# Altium footprint library XG_DW_POCT_2K10LED_V2.0_2024.11.151.PcbLib: 120 footprints (part 4 of 8)
Each footprint in its own frame and in the unit in brackets; x right, y up, seen from the top. Pads: shape width x height; smd on the part's side, far side on the other; paste and mask are expansions set on the pad; w line width, h text height; cw(c..) or ccw(c..) is an arc to the next point about the centre after c.
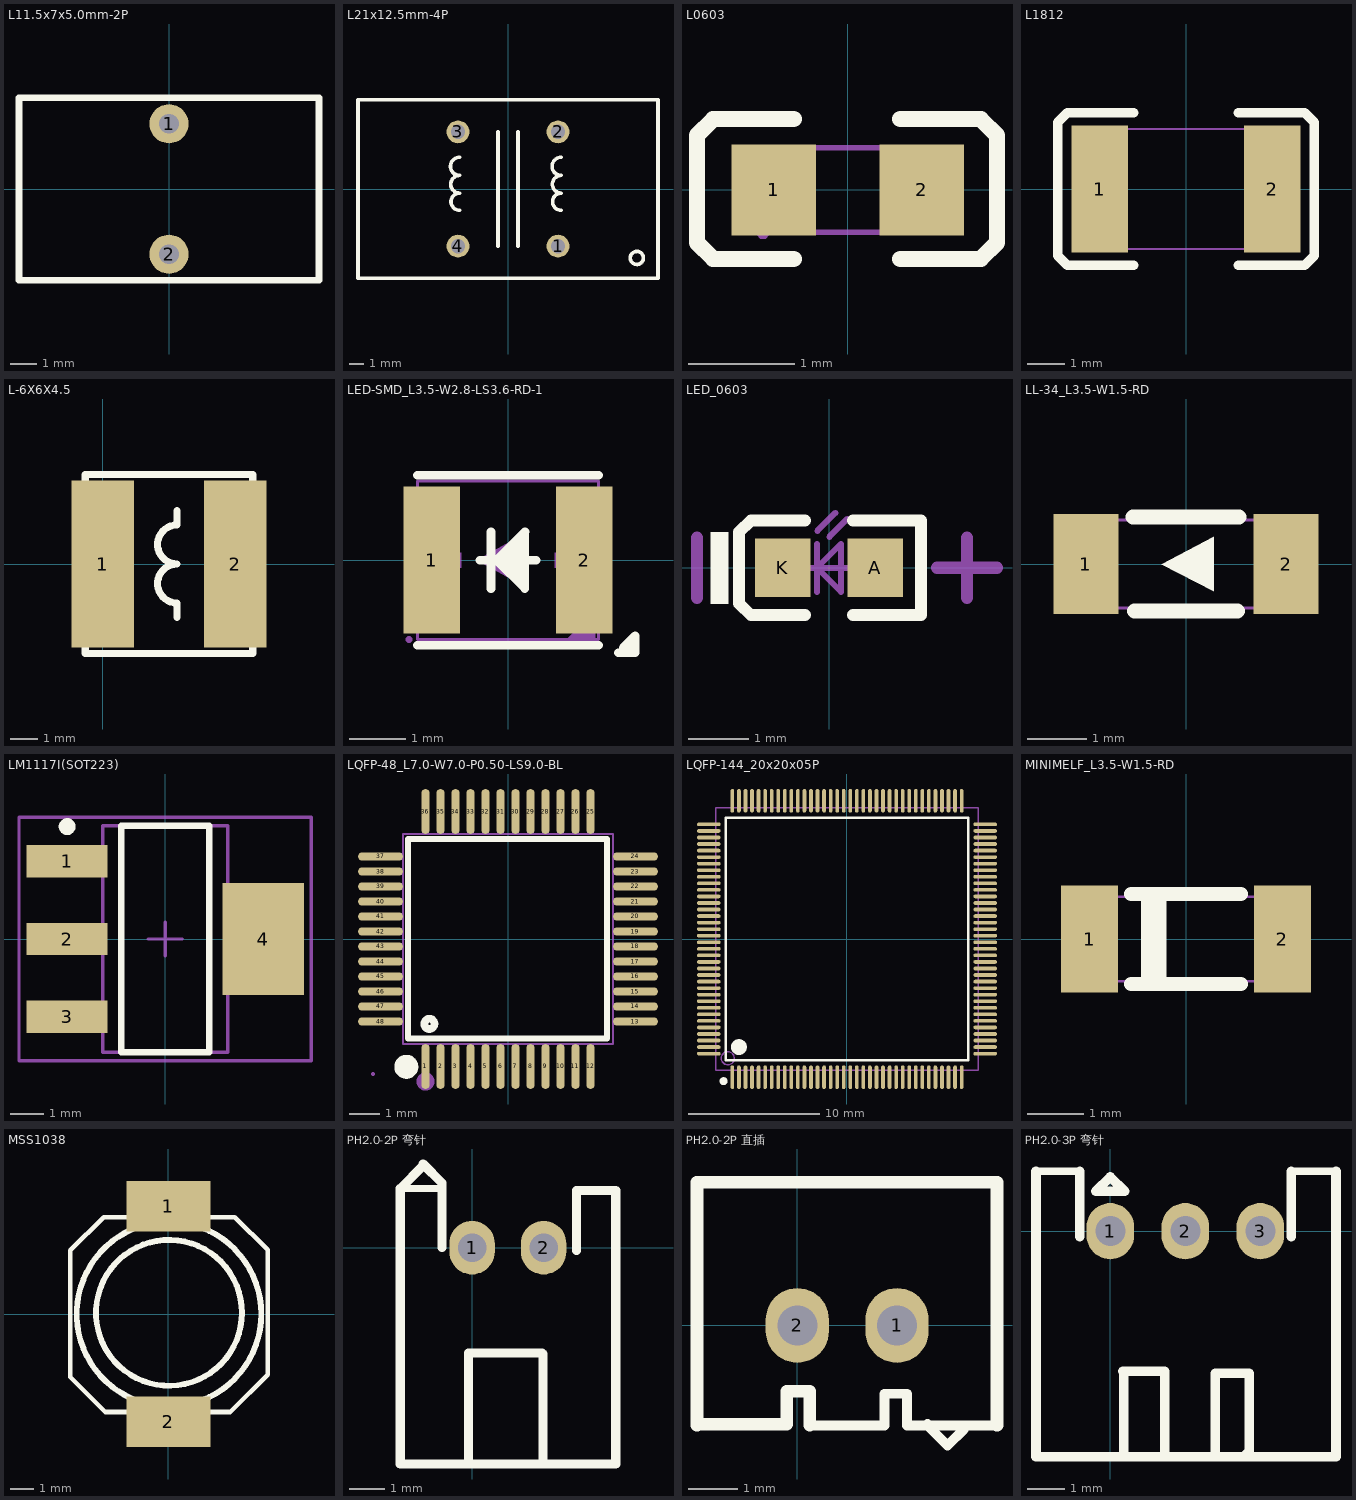
[diagram p3: the footprints below, top view; thin cyan lines are the x and y axes]

## L11.5x7x5.0mm-2P [mm]
pads (2):
  round 1.5 hole 0.75: 1(0,2.5) 2(0,-2.5)
Top Overlay:
  lines w0.254: -5.75,-3.5 5.75,-3.5 5.75,3.5 -5.75,3.5 -5.75,-3.5

## L21x12.5mm-4P [mm]
pads (4):
  round 1.6 hole 1: 1(3.5,-4) 2(3.5,4) 3(-3.5,4) 4(-3.5,-4)
Top Overlay:
  circle w0.254: c9.017,-4.826 r0.458
  lines w0.254: -3.388,-1.493 cw(c-3.388,-0.891) -3.388,-0.288 cw(c-3.388,0.332) -3.388,0.952 cw(c-3.388,1.587) -3.388,2.222 ; -0.7,-4 -0.7,4 ; 0.7,-4 0.7,4 ; 3.724,-1.493 cw(c3.724,-0.891) 3.724,-0.288 cw(c3.724,0.332) 3.724,0.952 cw(c3.724,1.587) 3.724,2.222 ; -10.5,-6.25 10.5,-6.25 10.5,6.25 -10.5,6.25 -10.5,-6.25

## L0603 [mm]
pads (2):
  rect 0.8x0.864 smd paste-100 mask+0.051: 1(-0.7,0) 2(0.7,0)
Top Overlay:
  lines w0.152: -0.51,-0.651 -1.272,-0.651 -1.424,-0.499 -1.424,0.517 -1.272,0.67 -0.51,0.67 ; 0.496,-0.651 1.258,-0.651 1.411,-0.499 1.411,0.517 1.258,0.67 0.496,0.67
Top Paste:
  region: 0.264,0.154 0.264,-0.122 0.538,-0.416 1.042,-0.416 1.106,-0.352 1.106,0.384 1.042,0.448 0.538,0.448
  region: -0.252,0.143 -0.252,-0.134 -0.526,-0.427 -1.029,-0.427 -1.093,-0.363 -1.093,0.373 -1.029,0.437 -0.526,0.437
Mechanical 15:
  region: -0.74,-0.4 -0.74,-0.375 -0.775,-0.34 -0.825,-0.34 -0.86,-0.375 -0.86,-0.4 -0.86,-0.425 -0.825,-0.46 -0.775,-0.46 -0.74,-0.425 -0.74,-0.4
  region: -0.5,-0.4 -0.8,-0.4 -0.8,0.4 -0.5,0.4
  region: 0.8,-0.4 0.5,-0.4 0.5,0.4 0.8,0.4
  lines w0.051: -0.8,-0.4 -0.8,0.4 0.8,0.4 0.8,-0.4 -0.8,-0.4

## L1812 [mm]
pads (2):
  rect 1.5x3.4 smd: 1(-2.305,0) 2(2.305,0)
Top Overlay:
  lines w0.254: -1.401,2.032 -3.174,2.032 -3.428,1.778 -3.428,-1.778 -3.174,-2.032 -1.396,-2.032 ; 1.396,2.032 3.174,2.032 3.428,1.778 3.428,-1.778 3.174,-2.032 1.401,-2.032
Mechanical 15:
  region: -2.25,-1.54 -2.275,-1.54 -2.309,-1.575 -2.309,-1.624 -2.275,-1.659 -2.25,-1.66 -2.226,-1.659 -2.191,-1.624 -2.191,-1.576 -2.226,-1.541 -2.25,-1.54
  region: -2.25,1.6 -1.75,1.6 -1.75,-1.6 -2.25,-1.6
  region: 2.25,-1.6 1.75,-1.6 1.75,1.6 2.25,1.6
  lines w0.051: -2.25,-1.6 2.25,-1.6 2.25,1.6 -2.25,1.6 -2.25,-1.6

## L-6X6X4.5 [mm]
pads (2):
  rect 2.25x6 smd: 1(0,0) 2(4.75,0)
Top Overlay:
  lines w0.254: 2.667,-1.908 2.667,-1.4 cw(c2.667,-0.7) 2.667,0 cw(c2.667,0.7) 2.667,1.4 2.667,1.908 ; -0.625,-3.2 2.375,-3.2 5.375,-3.2 5.375,3.2 2.375,3.2 -0.625,3.2 -0.625,-3.2

## LED-SMD_L3.5-W2.8-LS3.6-RD-1 [mm]
pads (2):
  rect 1x2.6 smd: 1(-1.35,0) 2(1.35,0)
Top Overlay:
  region: 0.25,0.45 0.25,-0.45 0.249,-0.451 0.249,-0.349 -0.15,0.05
  region: 1.947,-1.636 2.247,-1.636 2.247,-1.336
  lines w0.152: -1.6,-1.5 1.6,-1.5 ; -1.6,1.5 1.6,1.5 ; -0.5,0 -0.238,0 -0.2,0 ; -0.3,-0.5 -0.3,0.5 ; -0.235,0 -0.199,0 ; 0.299,0.5 0.299,-0.5 -0.199,0 ; 0.3,0.5 -0.2,0 ; 0.5,0 0.299,0 -0.2,0 ; 1.947,-1.636 2.247,-1.636 2.247,-1.336 2.036,-1.547
Mechanical 6:
  region: 0.35,0.5 0.35,-0.5 -0.55,0
  region: 1.17,-0.47 1.17,0.47 1.43,0.47 1.43,-0.47
  region: 0.83,0.13 1.77,0.13 1.77,-0.13 0.83,-0.13
  region: -1.77,0.13 -0.83,0.13 -0.83,-0.13 -1.77,-0.13
  region: 1.543,-1.386 1.543,-1.086 1.543,-0.886 1.043,-1.386
Mechanical 15:
  region: -1.69,-1.4 -1.691,-1.376 -1.726,-1.342 -1.774,-1.342 -1.809,-1.376 -1.81,-1.4 -1.809,-1.424 -1.775,-1.459 -1.726,-1.459 -1.691,-1.425 -1.69,-1.4
  region: -1.75,1.075 -0.95,1.075 -0.95,-1.075 -1.75,-1.075
  region: 0.95,1.075 1.75,1.075 1.75,-1.075 0.95,-1.075
  lines w0.051: -1.6,-1.4 -1.6,1.4 1.6,1.4 1.6,-1.4 -1.6,-1.4

## LED_0603 [mm]
height 7.7
pads (2):
  rect 0.93x0.98 smd: A(0.77,0) K(-0.77,0)
Top Overlay:
  rectangle: -1.975,-0.6 -1.675,0.6
  lines w0.2: -0.4,-0.79 -1.3,-0.79 -1.5,-0.597 -1.5,0.597 -1.3,0.79 -0.4,0.79 ; 0.4,-0.79 1.535,-0.79 1.535,0.79 0.4,0.79
Mechanical 13:
  lines w0.1: -0.4,0 0.4,0 ; -0.2,-0.4 -0.2,0.4 ; -0.195,0.617 0.105,0.917 ; 0.005,0.517 0.305,0.817 ; -0.2,0 0.2,-0.4 0.2,0.4 -0.2,0
Mechanical 15:
  lines w0.203: -2.2,-0.5 -2.2,0.5 ; 1.8,0 2.8,0 ; 2.3,-0.5 2.3,0.5
3D body "User Library-LED_0603_R.STEP": height 0.6, standoff 0, extent -0.8,-0.4 0.8,0.4

## LL-34_L3.5-W1.5-RD [mm]
pads (2):
  rect 1.1x1.7 smd: 1(-1.7,0) 2(1.7,0)
Top Overlay:
  region: -0.42,-0.005 -0.415,0 0.475,0.46 0.475,-0.46
  lines w0.254: -0.9,0.8 0.9,0.8 ; -0.878,-0.8 0.878,-0.8
Mechanical 6:
  region: 1.604,-0.335 1.604,0.326 1.782,0.326 1.782,-0.335
  region: 2.035,-0.096 1.374,-0.096 1.374,0.082 2.035,0.082
  region: -1.365,-0.096 -2.026,-0.096 -2.026,0.082 -1.365,0.082
Mechanical 15:
  region: -1.806,-0.75 -1.806,-0.775 -1.771,-0.809 -1.722,-0.809 -1.687,-0.775 -1.686,-0.75 -1.687,-0.726 -1.722,-0.691 -1.771,-0.691 -1.806,-0.726 -1.806,-0.75
  region: 1.754,-0.75 1.354,-0.75 1.354,0.75 1.754,0.75
  region: -1.346,-0.75 -1.746,-0.75 -1.746,0.75 -1.346,0.75
  lines w0.051: -1.746,-0.75 -1.746,0.75 1.754,0.75 1.754,-0.75 -1.746,-0.75

## LM1117I(SOT223) [mm]
pads (4):
  rect 2.4x0.95 smd: 1(-2.9,2.3) 2(-2.9,0) 3(-2.9,-2.3)
  rect 2.4x3.3 smd: 4(2.9,0)
Top Overlay:
  circle w0.25: c-2.9,3.325 r0.125
  lines w0.2: -1.3,-3.35 1.3,-3.35 1.3,3.35 -1.3,3.35 -1.3,-3.35
Mechanical 13:
  lines w0.1: -1.85,-3.35 1.85,-3.35 1.85,3.35 -1.85,3.35 -1.85,-3.35
Mechanical 15:
  lines w0.1: -0.5,0 0.5,0 ; 0,-0.5 0,0.5 ; -4.325,-3.6 4.325,-3.6 4.325,3.6 -4.325,3.6 -4.325,-3.6
3D body: height 1.8, standoff 0.03, extent -1.85,-3.35 1.85,3.35

## LQFP-48_L7.0-W7.0-P0.50-LS9.0-BL [mm]
pads (48):
  oval 0.27x1.5 smd paste+0 mask+0.05: 1(-2.75,-4.25) 2(-2.25,-4.25) 3(-1.75,-4.25) 4(-1.25,-4.25) 5(-0.75,-4.25) 6(-0.25,-4.25) 7(0.25,-4.25) 8(0.75,-4.25) 9(1.25,-4.25) 10(1.75,-4.25) 11(2.25,-4.25) 12(2.75,-4.25) 25(2.75,4.25) 26(2.25,4.25) 27(1.75,4.25) 28(1.25,4.25) 29(0.75,4.25) 30(0.25,4.25) 31(-0.25,4.25) 32(-0.75,4.25) 33(-1.25,4.25) 34(-1.75,4.25) 35(-2.25,4.25) 36(-2.75,4.25)
  oval 1.5x0.27 smd paste+0 mask+0.05: 13(4.25,-2.75) 14(4.25,-2.25) 15(4.25,-1.75) 16(4.25,-1.25) 17(4.25,-0.75) 18(4.25,-0.25) 19(4.25,0.25) 20(4.25,0.75) 21(4.25,1.25) 22(4.25,1.75) 23(4.25,2.25) 24(4.25,2.75) 37(-4.25,2.75) 38(-4.25,2.25) 39(-4.25,1.75) 40(-4.25,1.25) 41(-4.25,0.75) 42(-4.25,0.25) 43(-4.25,-0.25) 44(-4.25,-0.75) 45(-4.25,-1.25) 46(-4.25,-1.75) 47(-4.25,-2.25) 48(-4.25,-2.75)
Top Overlay:
  circle w0.254: c-2.62,-2.83 r0.17
  lines w0.2: -2.896,3.34 3.302,3.34 3.302,-3.315 -3.327,-3.315 -3.327,3.34 -2.565,3.34
  lines w0.4: -3.39,-4.06 ccw(c-3.389,-4.26) -3.387,-4.06
Mechanical 6:
  circle w0.3: c-2.75,-4.75 r0.15
Mechanical 15:
  drawing of 101 lines, arcs and shapes, not listed

## LQFP-144_20x20x05P [mm]
pads (144):
  oval 0.28x1.8 smd mask+0.051: 1(-8.75,-10.55) 2(-8.25,-10.55) 3(-7.75,-10.55) 4(-7.25,-10.55) 5(-6.75,-10.55) 6(-6.25,-10.55) 7(-5.75,-10.55) 8(-5.25,-10.55) 9(-4.75,-10.55) 10(-4.25,-10.55) 11(-3.75,-10.55) 12(-3.25,-10.55) 13(-2.75,-10.55) 14(-2.25,-10.55) 15(-1.75,-10.55) 16(-1.25,-10.55) 17(-0.75,-10.55) 18(-0.25,-10.55) 19(0.25,-10.55) 20(0.75,-10.55) 21(1.25,-10.55) 22(1.75,-10.55) 23(2.25,-10.55) 24(2.75,-10.55) 25(3.25,-10.55) 26(3.75,-10.55) 27(4.25,-10.55) 28(4.75,-10.55) 29(5.25,-10.55) 30(5.75,-10.55) 31(6.25,-10.55) 32(6.75,-10.55) 33(7.25,-10.55) 34(7.75,-10.55) 35(8.25,-10.55) 36(8.75,-10.55) 73(8.75,10.55) 74(8.25,10.55) 75(7.75,10.55) 76(7.25,10.55) 77(6.75,10.55) 78(6.25,10.55) 79(5.75,10.55) 80(5.25,10.55) 81(4.75,10.55) 82(4.25,10.55) 83(3.75,10.55) 84(3.25,10.55) 85(2.75,10.55) 86(2.25,10.55) 87(1.75,10.55) 88(1.25,10.55) 89(0.75,10.55) 90(0.25,10.55) 91(-0.25,10.55) 92(-0.75,10.55) 93(-1.25,10.55) 94(-1.75,10.55) 95(-2.25,10.55) 96(-2.75,10.55) 97(-3.25,10.55) 98(-3.75,10.55) 99(-4.25,10.55) 100(-4.75,10.55) 101(-5.25,10.55) 102(-5.75,10.55) 103(-6.25,10.55) 104(-6.75,10.55) 105(-7.25,10.55) 106(-7.75,10.55) 107(-8.25,10.55) 108(-8.75,10.55)
  oval 1.8x0.28 smd mask+0.051: 37(10.55,-8.75) 38(10.55,-8.25) 39(10.55,-7.75) 40(10.55,-7.25) 41(10.55,-6.75) 42(10.55,-6.25) 43(10.55,-5.75) 44(10.55,-5.25) 45(10.55,-4.75) 46(10.55,-4.25) 47(10.55,-3.75) 48(10.55,-3.25) 49(10.55,-2.75) 50(10.55,-2.25) 51(10.55,-1.75) 52(10.55,-1.25) 53(10.55,-0.75) 54(10.55,-0.25) 55(10.55,0.25) 56(10.55,0.75) 57(10.55,1.25) 58(10.55,1.75) 59(10.55,2.25) 60(10.55,2.75) 61(10.55,3.25) 62(10.55,3.75) 63(10.55,4.25) 64(10.55,4.75) 65(10.55,5.25) 66(10.55,5.75) 67(10.55,6.25) 68(10.55,6.75) 69(10.55,7.25) 70(10.55,7.75) 71(10.55,8.25) 72(10.55,8.75) 109(-10.55,8.75) 110(-10.55,8.25) 111(-10.55,7.75) 112(-10.55,7.25) 113(-10.55,6.75) 114(-10.55,6.25) 115(-10.55,5.75) 116(-10.55,5.25) 117(-10.55,4.75) 118(-10.55,4.25) 119(-10.55,3.75) 120(-10.55,3.25) 121(-10.55,2.75) 122(-10.55,2.25) 123(-10.55,1.75) 124(-10.55,1.25) 125(-10.55,0.75) 126(-10.55,0.25) 127(-10.55,-0.25) 128(-10.55,-0.75) 129(-10.55,-1.25) 130(-10.55,-1.75) 131(-10.55,-2.25) 132(-10.55,-2.75) 133(-10.55,-3.25) 134(-10.55,-3.75) 135(-10.55,-4.25) 136(-10.55,-4.75) 137(-10.55,-5.25) 138(-10.55,-5.75) 139(-10.55,-6.25) 140(-10.55,-6.75) 141(-10.55,-7.25) 142(-10.55,-7.75) 143(-10.55,-8.25) 144(-10.55,-8.75)
Top Overlay:
  circle w0.6: c-8.25,-8.25 r0.3
  circle w0.3: c-9.425,-10.85 r0.15
  lines w0.2: -9.25,-9.25 9.25,-9.25 9.25,9.25 -9.25,9.25 -9.25,-9.25
Mechanical 13:
  circle w0.1: c-9.1,-9.1 r0.5
  lines w0.1: -10,-10 10,-10 10,10 -10,10 -10,-10

## MINIMELF_L3.5-W1.5-RD [mil]
pads (2):
  rect 40x75 smd: 1(-67.5,0) 2(67.5,0)
Top Overlay:
  lines w10: -38.4,-31.5 38.4,-31.5 ; -38.4,31.5 38.4,31.5 ; -26.43,-31.5 -26.43,31.5 ; -18.65,-31.5 -18.65,31.5
Mechanical 6:
  region: 54.94,1.77 80.53,1.77 80.53,-1.38 54.94,-1.38
  region: 66.14,-12.79 66.14,12.79 69.29,12.79 69.29,-12.79
  region: -83.66,1.97 -58.07,1.97 -58.07,-1.18 -83.66,-1.18
Mechanical 15:
  region: 68.9,-29.53 55.12,-29.53 55.12,29.53 68.9,29.53
  region: -55.12,-29.53 -68.9,-29.53 -68.9,29.53 -55.12,29.53
  region: -66.54,-29.53 -66.54,-28.55 -67.92,-27.17 -69.88,-27.17 -71.26,-28.55 -71.26,-29.53 -71.26,-30.51 -69.88,-31.89 -67.92,-31.89 -66.54,-30.51 -66.54,-29.53
  lines w2: -68.9,-29.53 68.9,-29.53 68.9,29.53 -68.9,29.53 -68.9,-29.53

## MSS1038 [mm]
pads (2):
  rect 3.66x2.2 smd: 1(0,4.7) 2(0,-4.7)
Top Overlay:
  circle w0.254: c0.025,0 r4.019
  circle w0.254: c0.025,0.051 r3.175
  lines w0.2: -4.267,-2.743 -4.267,2.769 -2.819,4.216 2.896,4.216 4.318,2.794 4.318,-1.143 4.318,-2.642 2.692,-4.267 -2.743,-4.267 -4.267,-2.743
3D body: height 3.8, standoff 0, extent -4.166,-4.191 4.293,4.166
3D body: height 3.8, standoff 0, extent -4.318,-4.775 4.318,4.953

## PH2.0-2P 弯针 [mm]
height 7.7
pads (2):
  oval 1.27x1.5 hole 0.8: 1(0,0) 2(2,0)
Top Overlay:
  lines w0.2: -2.007,1.651 -0.838,1.651
  lines w0.254: -0.838,0 -0.838,1.651 -0.838,1.803 -1.372,2.337 -1.372,2.286 -2.007,1.651 -2.007,-6.045 4.013,-6.045 4.013,1.6 2.921,1.6 2.921,-0.076 ; -0.102,-5.994 -0.102,-2.946 1.956,-2.946 1.981,-2.972 1.981,-6.02 1.956,-6.045

## PH2.0-2P 直插 [mm]
pads (2):
  oval 1.27x1.5 hole 0.8: 1(2.007,0) 2(0.007,0)
Top Overlay:
  lines w0.2: 0.254,-2.007 1.753,-2.007 1.753,-1.372 2.21,-1.372 2.21,-2.007 4.013,-2.007 ; 2.616,-1.981 2.616,-2.007 3.023,-2.413 3.353,-2.083
  lines w0.254: -2.007,-2.007 -2.007,2.87 4.013,2.87 4.013,-2.007 ; -1.981,-1.981 -0.203,-1.981 -0.203,-1.321 0.254,-1.321 0.254,-2.007
3D body "JS-1132-2.STEP": height 6, standoff -2.5, extent -1.829,-2.281 3.871,1.519

## PH2.0-3P 弯针 [mm]
height 7.7
pads (3):
  oval 1.27x1.5 hole 0.8: 1(0,0) 2(2,0) 3(4,0)
Top Overlay:
  lines w0.2: -1.981,1.6 -0.813,1.6 ; 4.826,1.6 6.02,1.6
  lines w0.254: -1.981,1.6 -1.981,-6.02 6.02,-6.02 6.02,1.6 ; -0.813,-0.152 -0.813,1.6 ; 0.356,-5.969 0.356,-3.759 0.33,-3.734 1.448,-3.734 1.448,-6.02 ; 2.794,-5.944 2.794,-3.785 3.708,-3.785 3.708,-5.867 3.556,-6.02 ; 4.826,-0.152 4.826,1.6 ; -0.381,1.067 0.381,1.067 0,1.448 -0.381,1.067